# Altium schematic symbol library [L] Индуктивности.SchLib: 1 symbol
Pins are listed as number, name and electrical type; pins without a type are passive.

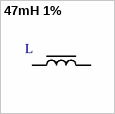
[diagram p0: symbol 47mH 1%]

## 47mH 1%
designator L
pins: 1, 2